# EAGLE library part DCDC_QBRICK (library wheat)
DC/DC CONVERTER, QUARTER BRICK SYNQOR
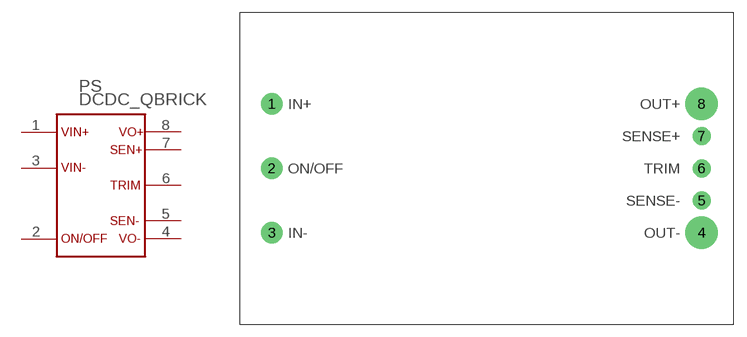
[diagram p83: symbol with the pads of DCDC_QBRICK; footprint DCDC_QBRICK]

Designator prefix PS

## DCDC_QBRICK  [DCDC_QBRICK]
1  VIN+  pas
2  ONOFF  pas
3  VIN-  pas
4  OUT-  pas
5  SEN-  pas
6  TRIM  pas
7  SEN+  pas
8  OUT+  pas

## Footprint DCDC_QBRICK (pad centres in mm)
DC/DC CONVERTER, QUARTER BRICK
drill 1.422 pad 2.54: 1 -25.4,7.62; 2 -25.4,0; 3 -25.4,-7.62
drill 1.93 pad 3.81: 4 25.4,-7.62; 8 25.4,7.62
drill 1.422: 5 25.4,-3.81; 6 25.4,0; 7 25.4,3.81